# Altium footprint library OPL_Discrete_Semiconductor.PCBLIB: 8 footprints
Each footprint in its own frame and in the unit in brackets; x right, y up, seen from the top. Pads: shape width x height; smd on the part's side, far side on the other; paste and mask are expansions set on the pad; w line width, h text height; cw(c..) or ccw(c..) is an arc to the next point about the centre after c.
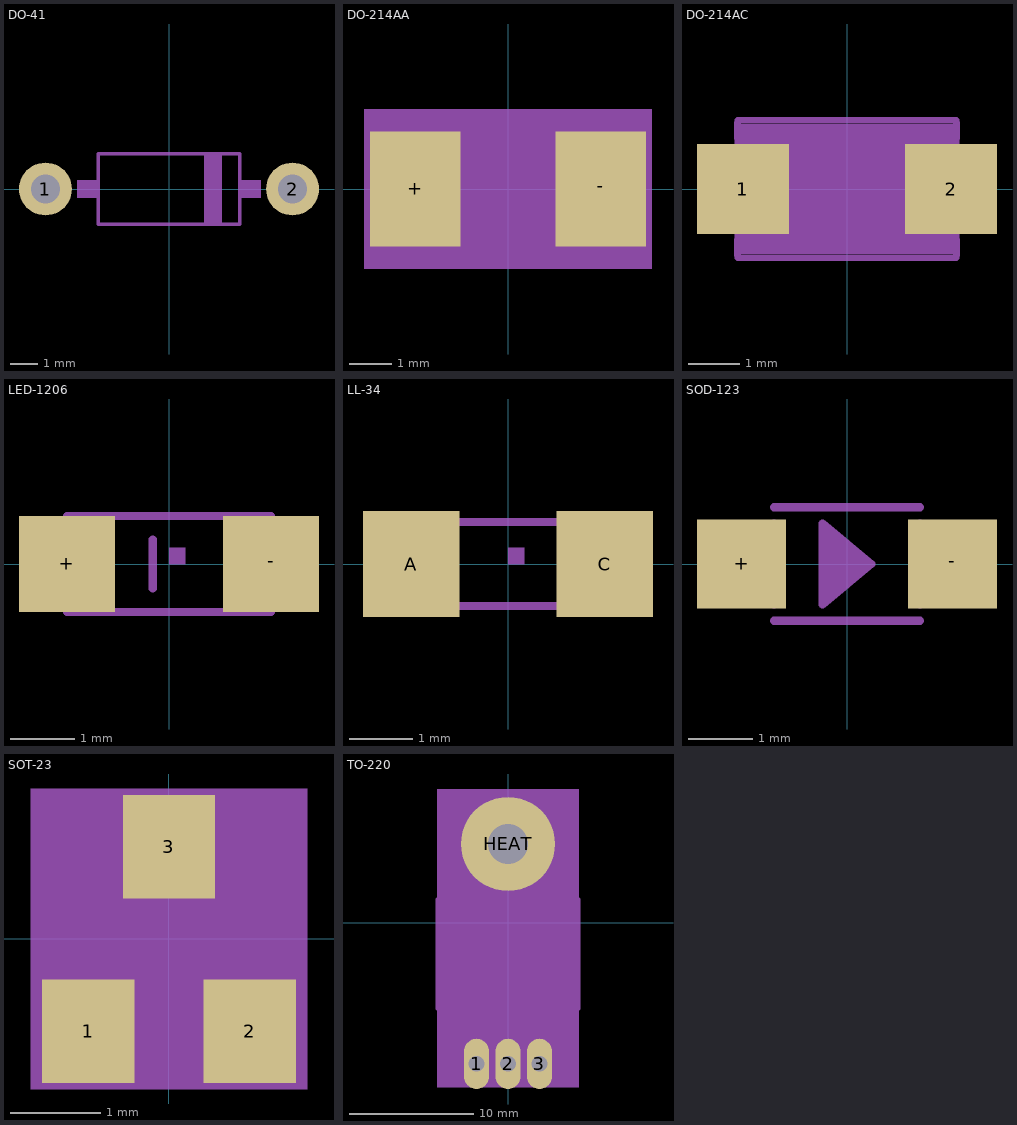
[diagram p0: the footprints below, top view; thin cyan lines are the x and y axes]

## DO-41 [mil]
pads (2):
  round 75 hole 41: 1(-175,0) 2(175,0)
Mechanical 2:
  region: 50,-50 50,50 75,50 75,-50
  region: -129.92,-12.5 -129.92,12.5 -100,12.5 -100,-12.5
  region: 100,-12.5 100,12.5 129.92,12.5 129.92,-12.5
  lines w5: -100,-50 100,-50 100,50 -100,50 -100,-50

## DO-214AA [mil]
pads (2):
  rect 85x107.99 smd: +(-87.01,0) -(87.01,0)
Mechanical 2:
  lines w5: -15,-35 -20,-40 -20,40 -15,35 ; -15,-35 -15,35 ; -15,-35 -10,-30 ; -15,35 -10,30 ; -10,-30 -5,-25 ; -10,-30 -10,30 ; -10,30 -5,25 ; -5,-25 -5,25 ; -5,-25 0,-20 ; -5,25 0,20 ; 0,-20 5,-15 ; 0,-20 0,20 ; 0,20 5,15 ; 5,-15 10,-10 ; 5,-15 5,15 ; 5,15 10,10 ; 10,-10 15,-5 ; 10,-10 10,10 ; 10,10 15,5 ; 15,-5 20,0 15,5 ; 15,-5 15,5
  lines w8: -85.04,-70.08 -84.25,-70.08 ; -85.04,70.08 -84.25,70.08 ; -84.25,-59.06 -84.25,-70.08 ; -84.25,59.84 -84.25,70.08 ; 85.04,-59.06 85.04,-70.08 -84.25,-70.08 ; 85.04,59.84 85.04,70.08 -84.25,70.08
Mechanical 8:
  lines w8: -85.04,-70.08 -85.04,70.08 ; 85.04,-70.08 85.04,70.08
Mech34:
  region: 135,75 135,-75 -135,-75 -135,75

## DO-214AC [mil]
pads (2):
  rect 70.87x69.69 smd: 1(-80.39,0) 2(80.39,0)
Mechanical 2:
  region: 0,0 10,0 10,10 0,10
  lines w5: -84.65,-51.18 -84.65,-39.37 ; -84.65,39.37 -84.65,51.18 ; -84.45,-53.15 84.45,-53.15 ; -84.45,53.15 84.45,53.15 ; 84.65,-51.18 84.65,-39.37 ; 84.65,39.37 84.65,51.18
Mechanical 8:
  lines w5: -84.45,-53.15 -84.45,53.15 ; 84.45,-53.15 84.45,53.15
Mech34:
  region: -85,-50 -85,50 85,50 85,-50

## LED-1206 [mil]
pads (2):
  rect 59.06x59.06 smd: +(-62.99,0) -(62.99,0)
Mechanical 2:
  region: 0,0 10,0 10,10 0,10
  lines w5: -31.5,-29.53 31.5,-29.53 ; -31.5,29.53 27.56,29.53 ; -10,-15 -10,15
Mechanical 8:
  lines w5: -62.99,-29.53 62.99,-29.53 62.99,29.53 -62.99,29.53 -62.99,-29.53

## LL-34 [mil]
pads (2):
  rect 60x66 smd: A(-60,0) C(60,0)
Mechanical 2:
  region: 0,0 10,0 10,10 0,10
  lines w5: -27.56,-25.98 27.56,-25.98 ; -27.56,25.98 27.56,25.98
Mechanical 8:
  lines w5: -66,-26 66,-26 66,26 -66,26 -66,-26

## SOD-123 [mil]
pads (2):
  rect 55x55 smd: +(-65,0) -(65,0)
Mechanical 2:
  lines w5: -45,-35 45,-35 ; -45,35 45,35 ; -5,0 -5,5 ; -15,-20 -15,-25 15,0 ; -15,-20 -15,-15 ; -15,-20 15,0 ; -15,-20 -10,20 10,0 -15,-15 ; -15,-15 -15,25 15,0 ; -15,-15 -10,15 5,0 -10,-10 -10,-5 ; -10,-5 -10,10 -5,5 ; -10,-5 0,0 -5,5 ; -10,-5 -5,5
Mechanical 8:
  region: 76.77,17.72 76.77,-15.75 47.24,-15.75 47.24,17.72
  region: -47.24,17.72 -47.24,-15.75 -76.77,-15.75 -76.77,17.72
  lines w5: -45,-25 -45,25 ; 45,-25 45,25

## SOT-23 [mil]
pads (3):
  rect 40x45 smd: 1(-35,-40) 2(35,-40) 3(0,40)
Mechanical 2:
  lines w5: -57.5,-10 -57.5,25 -27.5,25 ; -7.5,-25 7.5,-25 ; 27.5,25 57.5,25 57.5,-10
Mechanical 8:
  region: -9,28 -9,51 9,51 9,28
  region: 28,-51 28,-28 46,-28 46,-51
  region: -46,-51 -46,-28 -28,-28 -28,-51
Mech34:
  region: -60,-65 -60,65 60,65 60,-65

## TO-220 [mil]
pads (4):
  oval 80x160 hole 50: 1(-100,-450) 2(0,-450) 3(100,-450)
  round 300 hole 126: HEAT(0,250)
Mechanical 2:
  lines w10: -225,-275 225,-275 225,75 -225,75 -225,-275
Mech34:
  region: -225,-525 -225,425 225,425 225,-525